# Altium schematic symbol library sustentationAvecPC.SchLib: 17 symbols
Pins are listed as number, name and electrical type; pins without a type are passive.

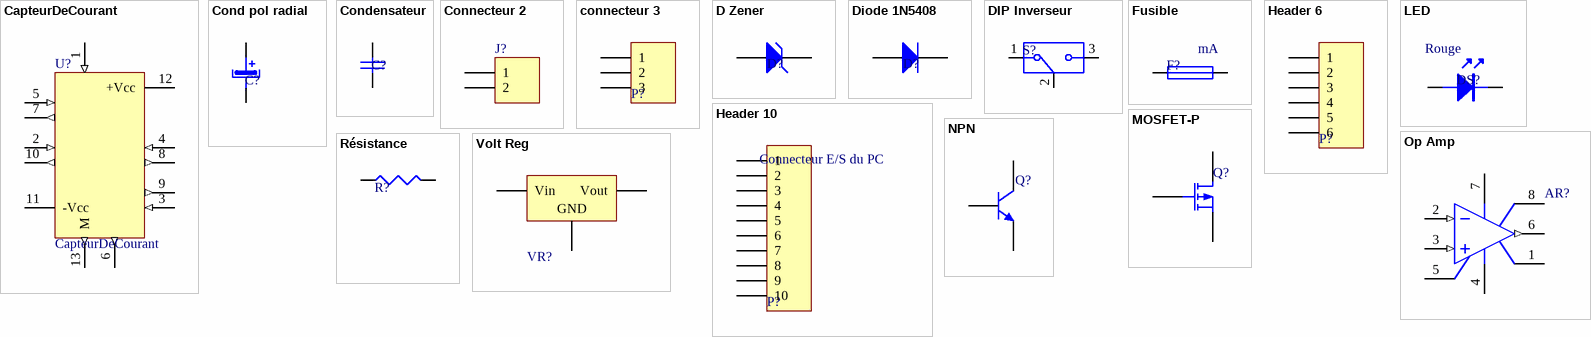
[diagram p0: symbols CapteurDeCourant to Volt Reg]

## CapteurDeCourant
designator U?
Published: 8-Jun-2000; LatestRevisionDate: 17-Jul-2002; LatestRevisionNote: Re-released for DXP Platform.; DatasheetDocument: Jul-1996; PackageDocument: Jan-1998; PackageReference: D016; Publisher: Altium Limited
footprint DIP14
pins: 1 (in), 2 (in), 3 (in), 4 (in), 5 (in), 6 (out), 7 (out), 8 (out), 9 (out), 10 (out), 11 -Vcc (power), 12 +Vcc (power), 13 M (out)

## Cond pol radial
designator C?
Condensateur polatisé; Type: Condensateur polarisé debout; Designer: ECAM 2004
footprint CAPPR_100n
pins: 1 +, 2 -
2 alternate drawings of the same symbol

## Condensateur
designator C?
Condensateur; Supplier: Farnell; Designer: ECAM 2004
footprint cap100n (Connector; Header; 2 Position)
footprint Capa_1.8n (Connector; Header; 2 Position)
pins: 1, 2

## Connecteur 2
designator J?
Connecteur; Designer: ECAM 2005; Type: Connecteur à vis
footprint CONVIS-2
pins: 1, 2

## connecteur 3
designator P?
Header, 3-Pin; LatestRevisionDate: 17-Jul-2002; LatestRevisionNote: Re-released for DXP Platform.; Publisher: Altium Limited
footprint HDR1X3 (Connector; Header; 3 Position)
signal-integrity model Connector
pins: 1, 2, 3

## D Zener
designator D?
Zener Diode; Published: 8-Jun-2000; LatestRevisionDate: 17-Jul-2002; LatestRevisionNote: Re-released for DXP Platform.; Publisher: Altium Limited
footprint DIODE-0.7 (Zener Diode; 2 Leads)
simulation model ZENER (Diode)
signal-integrity model D Zener
pins: 1 A, 2 K

## Diode 1N5408
designator D?
3 Amp Medium Power Silicon Rectifier Diode; Published: 8-Jun-2000; LatestRevisionDate: 17-Jul-2002; LatestRevisionNote: Re-released for DXP Platform.; DatasheetDocument: Aug-1984; PackageReference: DO-201AD; Publisher: Altium Limited
footprint DIO18.84-9.6x5.6 (Diode, Axial; Body 9.5 x 5.3 mm (LxDia. max), Lead Dia. 1.32 mm (max))
simulation model 1N5408 (DIODE)
signal-integrity model 1N5408
pins: 1 A, 2 K

## DIP Inverseur
designator S?
Inverseur; Supplier: Farnell 674 345; Designer: ECAM 2003; Type: Switch slide SPDT vertical
footprint SIP3
pins: 1 TA, 2 COM, 3 TB

## Fusible
designator F?  value mA
Fusible; Designer: ECAM 2004; Type: Fusible
pins: 1 F1, 2 F2

## Header 6
designator P?
Header, 6-Pin; LatestRevisionDate: 17-Jul-2002; LatestRevisionNote: Re-released for DXP Platform.; Publisher: Altium Limited
footprint HDR1X6 (Connector; Header; 6 Position)
signal-integrity model Connector
pins: 1, 2, 3, 4, 5, 6

## Header 10
designator P?, comment Connecteur E/S du PC
Header, 10-Pin; LatestRevisionDate: 17-Jul-2002; LatestRevisionNote: Re-released for DXP Platform.; Publisher: Altium Limited
footprint HDR1X10 (Connector; Header; 10 Position)
signal-integrity model Connector
pins: 1, 2, 3, 4, 5, 6, 7, 8, 9, 10

## LED
designator DS?  Color: Rouge
LED; Designer: ECAM 2004; Type: LED
pins: 1 A, 2 K

## MOSFET-P
designator Q?
P-Channel MOSFET; Published: 8-Jun-2000; LatestRevisionDate: 17-Jul-2002; LatestRevisionNote: Re-released for DXP Platform.; Publisher: Altium Limited
footprint BCY-W3/B.8 (TO Package, Flat Index; 3 In-Line, Axial Leads; Body Dia. 4.6mm)
simulation model PMOS (MOSFET-P)
pins: 1 D, 2 G, 3 S

## NPN
designator Q?
NPN Bipolar Transistor; Published: 8-Jun-2000; LatestRevisionDate: 17-Jul-2002; LatestRevisionNote: Re-released for DXP Platform.; Publisher: Altium Limited; Code_JEDEC: TO-226-AA
footprint BCY-W3 (TO, Flat Index; 3 In-Line, Axial Leads; Body Dia. 4.8mm)
simulation model NPN
signal-integrity model NPN
pins: 1 C, 2 B, 3 E

## Op Amp
designator AR?
FET Operational Amplifier; Published: 8-Jun-2000; LatestRevisionDate: 17-Jul-2002; LatestRevisionNote: Re-released for DXP Platform.; DatasheetDocument: REV. B; PackageReference: H-08A; Publisher: Altium Limited
footprint CAN-8/D9.4 (Can; 8 Leads; Pin Circle Dia. 5.08 mm (TO-99))
simulation model AD645A (Spice Subcircuit)
pins: 1 OS NUL, 2 IN- (in), 3 IN+ (in), 4 V- (power), 5 OS NUL, 6 OUT (out), 7 V+ (power), 8 TAB

## Résistance
designator R?
Résistance standard; Designer: ECAM 2005; Type: Résistance standard
footprint AXIAL-0.4
footprint AXIAL-0.4_vertical-
footprint AXIAL-0.5_de_puissance
pins: 1, 2
3 alternate drawings of the same symbol

## Volt Reg
designator VR?
Voltage Regulator; Published: 24-Mar-1999; LatestRevisionDate: 17-Jul-2002; LatestRevisionNote: Re-released for DXP Platform.; Publisher: Altium Limited; Code_JEDEC: SMD-220
footprint SIP-G3/Y2 (D2-PAK/TO-263-AB; 3 Leads (1 Cropped); Body 15.5 (inc. leads) x 10.5 mm (LxW max))
pins: 1 Vin, 2 GND, 3 Vout